# EAGLE library part LL1576/77 (library lundahl)
LL1576 / LL1577
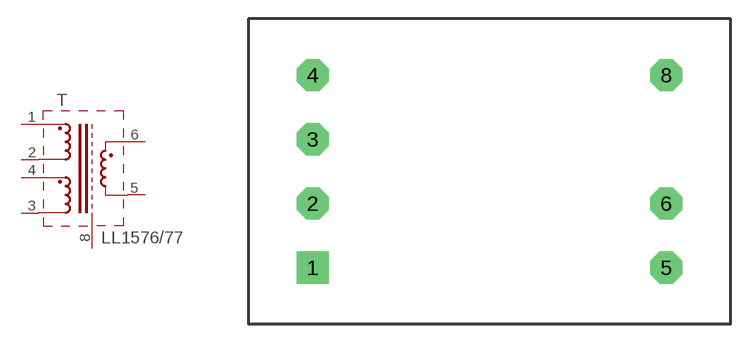
[diagram p6: symbol with the pads of LL1576; footprint LL1576]

Designator prefix T

## LL1576/77  [LL1576]
1  1  pas
2  2  pas
3  3  pas
4  4  pas
5  5  pas
6  6  pas
8  8  pas

## Footprint LL1576 (pad centres in mm)
LL1676
drill 1.422 pad 2.54 square: 1 -13.97,-7.62
drill 1.422 pad 2.54 octagon: 2 -13.97,-2.54; 3 -13.97,2.54; 4 -13.97,7.62; 5 13.97,-7.62; 6 13.97,-2.54; 8 13.97,7.62